# Altium schematic symbol library AD620ARZ-REEL.Schlib: 1 symbol
Pins are listed as number, name and electrical type; pins without a type are passive.

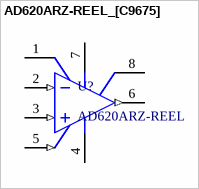
[diagram p0: symbol AD620ARZ-REEL_[C9675]]

## AD620ARZ-REEL_[C9675]
designator U?, comment AD620ARZ-REEL
仪放
footprint SOIC-8_150mil
pins: 1 RG, 2 -IN (in), 3 +IN (in), 4 V- (power), 5 REF (in), 6 OUT (out), 7 V+ (power), 8 RG